# Altium schematic symbol library Schlib AM625.SchLib: 78 symbols (part 1 of 3)
Pins are listed as number, name and electrical type; pins without a type are passive.

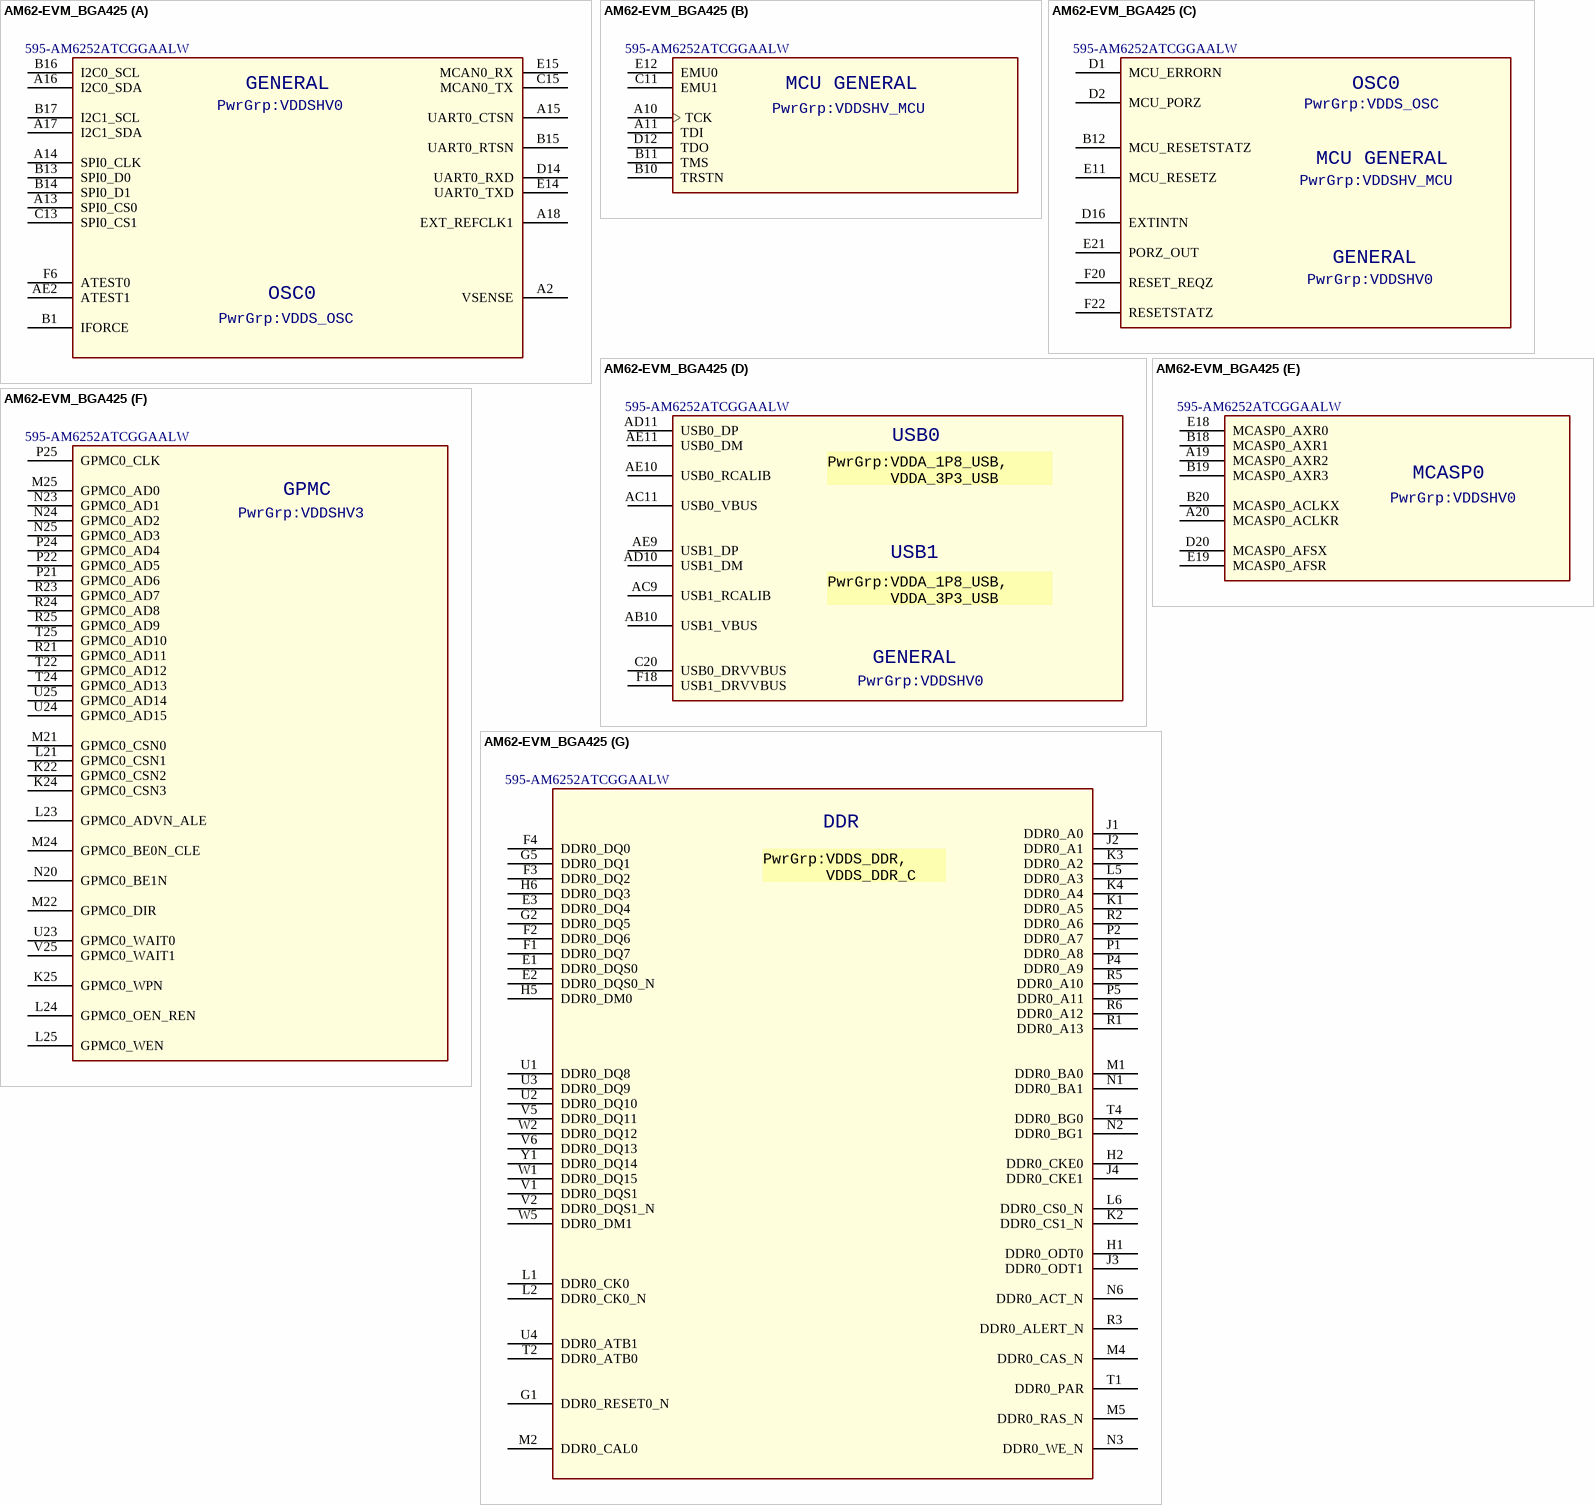
[diagram p0: symbol AM62-EVM_BGA425]

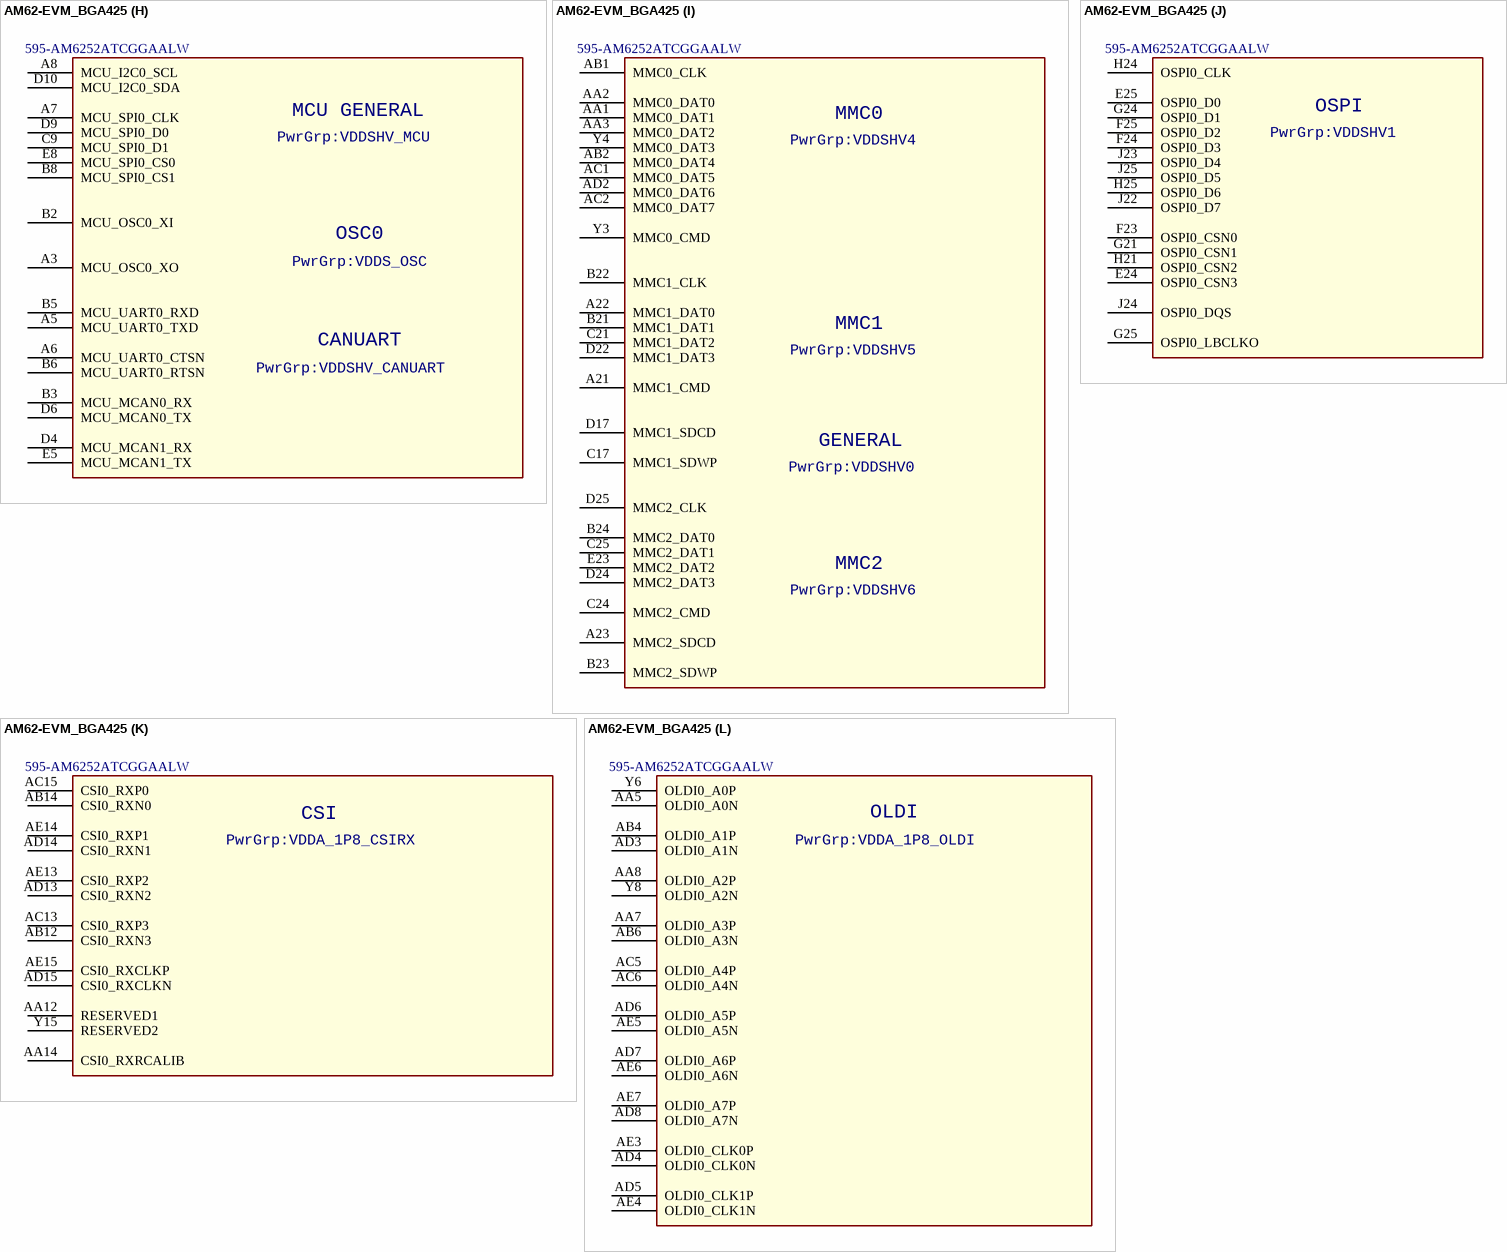
[diagram p1: symbol AM62-EVM_BGA425]

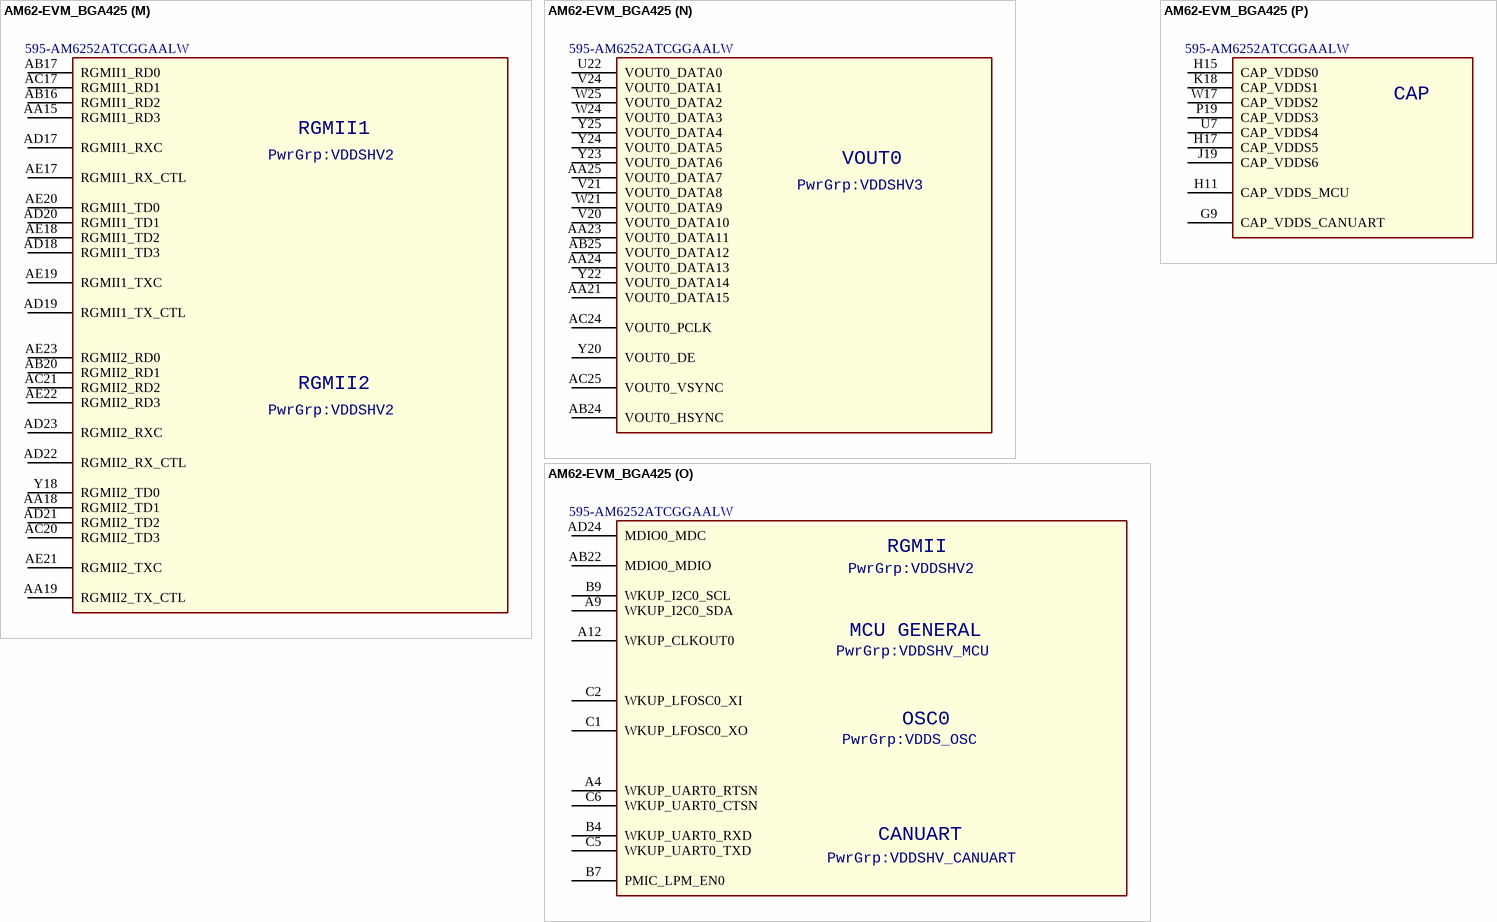
[diagram p2: symbol AM62-EVM_BGA425]

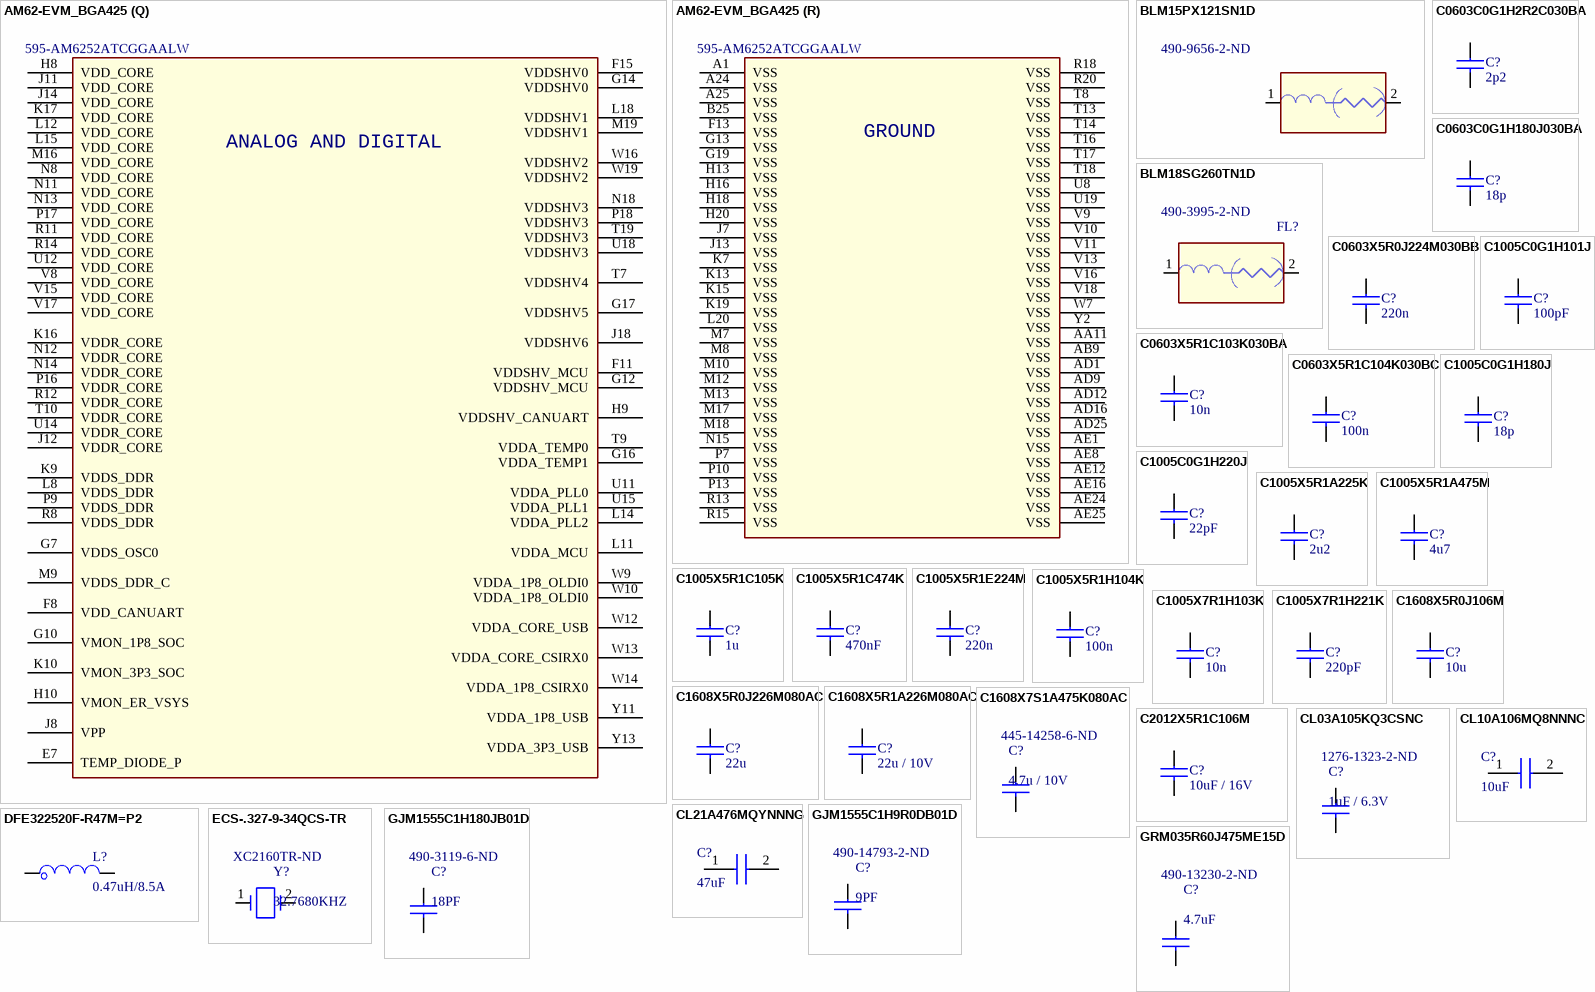
[diagram p3: symbols AM62-EVM_BGA425 to GRM035R60J475ME15D]

## AM62-EVM_BGA425
designator U?  Supplier Part Number 1: 595-AM6252ATCGGAALW
ARM® Cortex®-A53 Microprocessor IC Sitara™ 2 Core, 64-Bit 1.4GHz 425-FCCSP (13x13); Manufacturer: Texas Instruments; Manufacturer Part Number: AM6252ATCGGAALW; Supplier 1: Mouser; Stock 1: 0; Pricing 1: 1=21.23, 10=19.58, 50=18.7, 100=18.7, 1000=15.94, 10000=15.94 (USD)
footprint BGA425C50P25X25_1300X1300X89
part A pins: A2 VSENSE, A13 SPI0_CS0, A14 SPI0_CLK, A15 UART0_CTSN, A16 I2C0_SDA, A17 I2C1_SDA, A18 EXT_REFCLK1, AE2 ATEST1, B1 IFORCE, B13 SPI0_D0, B14 SPI0_D1, B15 UART0_RTSN, B16 I2C0_SCL, B17 I2C1_SCL, C13 SPI0_CS1, C15 MCAN0_TX, D14 UART0_RXD, E14 UART0_TXD, E15 MCAN0_RX, F6 ATEST0
part B pins: A10 TCK, A11 TDI, B10 TRSTN, B11 TMS, C11 EMU1, D12 TDO, E12 EMU0
part C pins: B12 MCU_RESETSTATZ, D1 MCU_ERRORN, D2 MCU_PORZ, D16 EXTINTN, E11 MCU_RESETZ, E21 PORZ_OUT, F20 RESET_REQZ, F22 RESETSTATZ
part D pins: AB10 USB1_VBUS, AC9 USB1_RCALIB, AC11 USB0_VBUS, AD10 USB1_DM, AD11 USB0_DP, AE9 USB1_DP, AE10 USB0_RCALIB, AE11 USB0_DM, C20 USB0_DRVVBUS, F18 USB1_DRVVBUS
part E pins: A19 MCASP0_AXR2, A20 MCASP0_ACLKR, B18 MCASP0_AXR1, B19 MCASP0_AXR3, B20 MCASP0_ACLKX, D20 MCASP0_AFSX, E18 MCASP0_AXR0, E19 MCASP0_AFSR
part F pins: K22 GPMC0_CSN2, K24 GPMC0_CSN3, K25 GPMC0_WPN, L21 GPMC0_CSN1, L23 GPMC0_ADVN_ALE, L24 GPMC0_OEN_REN, L25 GPMC0_WEN, M21 GPMC0_CSN0, M22 GPMC0_DIR, M24 GPMC0_BE0N_CLE, M25 GPMC0_AD0, N20 GPMC0_BE1N, N23 GPMC0_AD1, N24 GPMC0_AD2, N25 GPMC0_AD3, P21 GPMC0_AD6, P22 GPMC0_AD5, P24 GPMC0_AD4, P25 GPMC0_CLK, R21 GPMC0_AD11, R23 GPMC0_AD7, R24 GPMC0_AD8, R25 GPMC0_AD9, T22 GPMC0_AD12, T24 GPMC0_AD13, T25 GPMC0_AD10, U23 GPMC0_WAIT0, U24 GPMC0_AD15, U25 GPMC0_AD14, V25 GPMC0_WAIT1
part G pins: E1 DDR0_DQS0, E2 DDR0_DQS0_N, E3 DDR0_DQ4, F1 DDR0_DQ7, F2 DDR0_DQ6, F3 DDR0_DQ2, F4 DDR0_DQ0, G1 DDR0_RESET0_N, G2 DDR0_DQ5, G5 DDR0_DQ1, H1 DDR0_ODT0, H2 DDR0_CKE0, H5 DDR0_DM0, H6 DDR0_DQ3, J1 DDR0_A0, J2 DDR0_A1, J3 DDR0_ODT1, J4 DDR0_CKE1, K1 DDR0_A5, K2 DDR0_CS1_N, K3 DDR0_A2, K4 DDR0_A4, L1 DDR0_CK0, L2 DDR0_CK0_N, L5 DDR0_A3, L6 DDR0_CS0_N, M1 DDR0_BA0, M2 DDR0_CAL0, M4 DDR0_CAS_N, M5 DDR0_RAS_N, N1 DDR0_BA1, N2 DDR0_BG1, N3 DDR0_WE_N, N6 DDR0_ACT_N, P1 DDR0_A8, P2 DDR0_A7, P4 DDR0_A9, P5 DDR0_A11, R1 DDR0_A13, R2 DDR0_A6, R3 DDR0_ALERT_N, R5 DDR0_A10, R6 DDR0_A12, T1 DDR0_PAR, T2 DDR0_ATB0, T4 DDR0_BG0, U1 DDR0_DQ8, U2 DDR0_DQ10, U3 DDR0_DQ9, U4 DDR0_ATB1, V1 DDR0_DQS1, V2 DDR0_DQS1_N, V5 DDR0_DQ11, V6 DDR0_DQ13, W1 DDR0_DQ15, W2 DDR0_DQ12, W5 DDR0_DM1, Y1 DDR0_DQ14
part H pins: A3 MCU_OSC0_XO, A5 MCU_UART0_TXD, A6 MCU_UART0_CTSN, A7 MCU_SPI0_CLK, A8 MCU_I2C0_SCL, B2 MCU_OSC0_XI, B3 MCU_MCAN0_RX, B5 MCU_UART0_RXD, B6 MCU_UART0_RTSN, B8 MCU_SPI0_CS1, C9 MCU_SPI0_D1, D4 MCU_MCAN1_RX, D6 MCU_MCAN0_TX, D9 MCU_SPI0_D0, D10 MCU_I2C0_SDA, E5 MCU_MCAN1_TX, E8 MCU_SPI0_CS0
part I pins: A21 MMC1_CMD, A22 MMC1_DAT0, A23 MMC2_SDCD, AA1 MMC0_DAT1, AA2 MMC0_DAT0, AA3 MMC0_DAT2, AB1 MMC0_CLK, AB2 MMC0_DAT4, AC1 MMC0_DAT5, AC2 MMC0_DAT7, AD2 MMC0_DAT6, B21 MMC1_DAT1, B22 MMC1_CLK, B23 MMC2_SDWP, B24 MMC2_DAT0, C17 MMC1_SDWP, C21 MMC1_DAT2, C24 MMC2_CMD, C25 MMC2_DAT1, D17 MMC1_SDCD, D22 MMC1_DAT3, D24 MMC2_DAT3, D25 MMC2_CLK, E23 MMC2_DAT2, Y3 MMC0_CMD, Y4 MMC0_DAT3
part J pins: E24 OSPI0_CSN3, E25 OSPI0_D0, F23 OSPI0_CSN0, F24 OSPI0_D3, F25 OSPI0_D2, G21 OSPI0_CSN1, G24 OSPI0_D1, G25 OSPI0_LBCLKO, H21 OSPI0_CSN2, H24 OSPI0_CLK, H25 OSPI0_D6, J22 OSPI0_D7, J23 OSPI0_D4, J24 OSPI0_DQS, J25 OSPI0_D5
part K pins: AA12 RESERVED1, AA14 CSI0_RXRCALIB, AB12 CSI0_RXN3, AB14 CSI0_RXN0, AC13 CSI0_RXP3, AC15 CSI0_RXP0, AD13 CSI0_RXN2, AD14 CSI0_RXN1, AD15 CSI0_RXCLKN, AE13 CSI0_RXP2, AE14 CSI0_RXP1, AE15 CSI0_RXCLKP, Y15 RESERVED2
part L pins: AA5 OLDI0_A0N, AA7 OLDI0_A3P, AA8 OLDI0_A2P, AB4 OLDI0_A1P, AB6 OLDI0_A3N, AC5 OLDI0_A4P, AC6 OLDI0_A4N, AD3 OLDI0_A1N, AD4 OLDI0_CLK0N, AD5 OLDI0_CLK1P, AD6 OLDI0_A5P, AD7 OLDI0_A6P, AD8 OLDI0_A7N, AE3 OLDI0_CLK0P, AE4 OLDI0_CLK1N, AE5 OLDI0_A5N, AE6 OLDI0_A6N, AE7 OLDI0_A7P, Y6 OLDI0_A0P, Y8 OLDI0_A2N
part M pins: AA15 RGMII1_RD3, AA18 RGMII2_TD1, AA19 RGMII2_TX_CTL, AB16 RGMII1_RD2, AB17 RGMII1_RD0, AB20 RGMII2_RD1, AC17 RGMII1_RD1, AC20 RGMII2_TD3, AC21 RGMII2_RD2, AD17 RGMII1_RXC, AD18 RGMII1_TD3, AD19 RGMII1_TX_CTL, AD20 RGMII1_TD1, AD21 RGMII2_TD2, AD22 RGMII2_RX_CTL, AD23 RGMII2_RXC, AE17 RGMII1_RX_CTL, AE18 RGMII1_TD2, AE19 RGMII1_TXC, AE20 RGMII1_TD0, AE21 RGMII2_TXC, AE22 RGMII2_RD3, AE23 RGMII2_RD0, Y18 RGMII2_TD0
part N pins: AA21 VOUT0_DATA15, AA23 VOUT0_DATA11, AA24 VOUT0_DATA13, AA25 VOUT0_DATA7, AB24 VOUT0_HSYNC, AB25 VOUT0_DATA12, AC24 VOUT0_PCLK, AC25 VOUT0_VSYNC, U22 VOUT0_DATA0, V20 VOUT0_DATA10, V21 VOUT0_DATA8, V24 VOUT0_DATA1, W21 VOUT0_DATA9, W24 VOUT0_DATA3, W25 VOUT0_DATA2, Y20 VOUT0_DE, Y22 VOUT0_DATA14, Y23 VOUT0_DATA6, Y24 VOUT0_DATA5, Y25 VOUT0_DATA4
part O pins: A4 WKUP_UART0_RTSN, A9 WKUP_I2C0_SDA, A12 WKUP_CLKOUT0, AB22 MDIO0_MDIO, AD24 MDIO0_MDC, B4 WKUP_UART0_RXD, B7 PMIC_LPM_EN0, B9 WKUP_I2C0_SCL, C1 WKUP_LFOSC0_XO, C2 WKUP_LFOSC0_XI, C5 WKUP_UART0_TXD, C6 WKUP_UART0_CTSN
part P pins: G9 CAP_VDDS_CANUART (power), H11 CAP_VDDS_MCU (power), H15 CAP_VDDS0 (power), H17 CAP_VDDS5 (power), J19 CAP_VDDS6 (power), K18 CAP_VDDS1 (power), P19 CAP_VDDS3 (power), U7 CAP_VDDS4 (power), W17 CAP_VDDS2 (power)
part Q pins: E7 TEMP_DIODE_P (power), F8 VDD_CANUART (power), F11 VDDSHV_MCU (power), F15 VDDSHV0 (power), G7 VDDS_OSC0 (power), G10 VMON_1P8_SOC (power), G12 VDDSHV_MCU (power), G14 VDDSHV0 (power), G16 VDDA_TEMP1 (power), G17 VDDSHV5 (power), H8 VDD_CORE (power), H9 VDDSHV_CANUART (power), H10 VMON_ER_VSYS (power), J8 VPP (power), J11 VDD_CORE (power), J12 VDDR_CORE (power), J14 VDD_CORE (power), J18 VDDSHV6 (power), K9 VDDS_DDR (power), K10 VMON_3P3_SOC (power), K16 VDDR_CORE (power), K17 VDD_CORE (power), L8 VDDS_DDR (power), L11 VDDA_MCU (power), L12 VDD_CORE (power), L14 VDDA_PLL2 (power), L15 VDD_CORE (power), L18 VDDSHV1 (power), M9 VDDS_DDR_C (power), M16 VDD_CORE (power), M19 VDDSHV1 (power), N8 VDD_CORE (power), N11 VDD_CORE (power), N12 VDDR_CORE (power), N13 VDD_CORE (power), N14 VDDR_CORE (power), N18 VDDSHV3 (power), P9 VDDS_DDR (power), P16 VDDR_CORE (power), P17 VDD_CORE (power), P18 VDDSHV3 (power), R8 VDDS_DDR (power), R11 VDD_CORE (power), R12 VDDR_CORE (power), R14 VDD_CORE (power), T7 VDDSHV4 (power), T9 VDDA_TEMP0 (power), T10 VDDR_CORE (power), T19 VDDSHV3 (power), U11 VDDA_PLL0 (power), U12 VDD_CORE (power), U14 VDDR_CORE (power), U15 VDDA_PLL1 (power), U18 VDDSHV3 (power), V8 VDD_CORE (power), V15 VDD_CORE (power), V17 VDD_CORE (power), W9 VDDA_1P8_OLDI0 (power), W10 VDDA_1P8_OLDI0 (power), W12 VDDA_CORE_USB (power), W13 VDDA_CORE_CSIRX0 (power), W14 VDDA_1P8_CSIRX0 (power), W16 VDDSHV2 (power), W19 VDDSHV2 (power), Y11 VDDA_1P8_USB (power), Y13 VDDA_3P3_USB (power)
part R pins: A1 VSS (power), A24 VSS (power), A25 VSS (power), AA11 VSS (power), AB9 VSS (power), AD1 VSS (power), AD9 VSS (power), AD12 VSS (power), AD16 VSS (power), AD25 VSS (power), AE1 VSS (power), AE8 VSS (power), AE12 VSS (power), AE16 VSS (power), AE24 VSS (power), AE25 VSS (power), B25 VSS (power), F13 VSS (power), G13 VSS (power), G19 VSS (power), H13 VSS (power), H16 VSS (power), H18 VSS (power), H20 VSS (power), J7 VSS (power), J13 VSS (power), K7 VSS (power), K13 VSS (power), K15 VSS (power), K19 VSS (power), L20 VSS (power), M7 VSS (power), M8 VSS (power), M10 VSS (power), M12 VSS (power), M13 VSS (power), M17 VSS (power), M18 VSS (power), N15 VSS (power), P7 VSS (power), P10 VSS (power), P13 VSS (power), R13 VSS (power), R15 VSS (power), R18 VSS (power), R20 VSS (power), T8 VSS (power), T13 VSS (power), T14 VSS (power), T16 VSS (power), T17 VSS (power), T18 VSS (power), U8 VSS (power), U19 VSS (power), V9 VSS (power), V10 VSS (power), V11 VSS (power), V13 VSS (power), V16 VSS (power), V18 VSS (power), W7 VSS (power), Y2 VSS (power)
part A text: GENERAL; PwrGrp:VDDSHV0; OSC0; PwrGrp:VDDS_OSC
part B text: MCU GENERAL; PwrGrp:VDDSHV_MCU
part C text: OSC0; PwrGrp:VDDS_OSC; MCU GENERAL; PwrGrp:VDDSHV_MCU; GENERAL; PwrGrp:VDDSHV0
part D text: USB0; PwrGrp:VDDA_1P8_USB, / VDDA_3P3_USB; USB1; GENERAL; PwrGrp:VDDSHV0
part E text: MCASP0; PwrGrp:VDDSHV0
part F text: GPMC; PwrGrp:VDDSHV3
part G text: DDR; PwrGrp:VDDS_DDR, / VDDS_DDR_C
part H text: MCU GENERAL; PwrGrp:VDDSHV_MCU; OSC0; PwrGrp:VDDS_OSC; CANUART; PwrGrp:VDDSHV_CANUART
part I text: MMC0; PwrGrp:VDDSHV4; MMC1; PwrGrp:VDDSHV5; GENERAL; PwrGrp:VDDSHV0; MMC2; PwrGrp:VDDSHV6
part J text: OSPI; PwrGrp:VDDSHV1
part K text: CSI; PwrGrp:VDDA_1P8_CSIRX
part L text: OLDI; PwrGrp:VDDA_1P8_OLDI
part M text: RGMII1; PwrGrp:VDDSHV2; RGMII2
part N text: VOUT0; PwrGrp:VDDSHV3
part O text: RGMII; PwrGrp:VDDSHV2; MCU GENERAL; PwrGrp:VDDSHV_MCU; OSC0; PwrGrp:VDDS_OSC; CANUART; PwrGrp:VDDSHV_CANUART
part P text: CAP
part Q text: ANALOG AND DIGITAL
part R text: GROUND

## BLM15PX121SN1D
designator FL?  Supplier Part Number 1: 490-9656-2-ND
FERRITE BEAD 120 OHM 0402 1LN; Manufacturer: Murata; Manufacturer Part Number: BLM15PX121SN1D; Tolerance: 25%; Impedance: 120R; Current Rating: 2A; Number of Lines: 1; DC Resistance (DCR): 55mR; Test Frequency: 100MHz; Supplier 1: Digi-Key; Stock 1: 490000; Pricing 1: 10000=0.0196 (USD); Case/Package: 0402; Number of Pins: 2; Case Code (Metric): 1005; Case Code (Imperial): 0402; Weight: 2.3E-05oz; Material: Steel; Min Operating Temperature: -55°C; Max Operating Temperature: 125°C; Package Quantity: 1; Packaging: Tape and Reel; Max Current Rating: 2A; Termination: SMD/SMT; Max DC Current: 2A; Number of Circuits: 1; Series: EMIFIL®, BLM15P; Length: 1mm; Width: 0.5mm; Height: 0.5mm; Reach SVHC Compliant: Yes; Lead Free: Lead Free; RoHS Compliant: Yes; ComponentLink1URL: https://datasheet.ciiva.com/41449/001172210-da-01-en-drossel-0402-120r-1-0x0-5mm-10000st-41449498.pdf?src-supplier=Conrad; ComponentLink1Description: https://datasheet.ciiva.com/41449/001172210-da-01-en-drossel-0402-120r-1-0x0-5mm-10000st-41449498.pdf?src-supplier=Conrad; ComponentLink2URL: https://datasheet.ciiva.com/41860/l0110e-41860699.pdf?src-supplier=Digi-Key; ComponentLink2Description: https://datasheet.ciiva.com/41860/l0110e-41860699.pdf?src-supplier=Digi-Key; ComponentLink3URL: https://datasheet.ciiva.com/29364/l0110e-29364069.pdf?src-supplier=Digi-Key; ComponentLink3Description: https://datasheet.ciiva.com/29364/l0110e-29364069.pdf?src-supplier=Digi-Key
footprint NFZ15SG152SN10B
pins: 1, 2

## BLM18SG260TN1D
designator FL?  Supplier Part Number 1: 490-3995-2-ND
FERRITE BEAD 26 OHM 0603 1LN; Manufacturer: Murata; Manufacturer Part Number: BLM18SG260TN1D; Impedance: 26R; Tolerance: 25%; Current Rating: 6A; Number of Lines: 1; DC Resistance (DCR): 7mR; Test Frequency: 100MHz; Supplier 1: Digi-Key; Stock 1: 170000; Pricing 1: 10000=0.032, 20000=0.0305, 30000=0.0297 (USD); Case/Package: 0603; Number of Pins: 2; Core Material: Ferrite; Case Code (Metric): 1608; Case Code (Imperial): 0603; Material: Steel,Ferrite; Min Operating Temperature: -55°C; Max Operating Temperature: 125°C; Package Quantity: 1; Packaging: Tape and Reel; Max Current Rating: 6A; Termination: SMD/SMT; Max DC Current: 6A; DC Current: 6A; Frequency: 100MHz; Number of Circuits: 1; Series: BLM18S; DC Resistance-Max: 7mR; Length: 1.6mm; Width: 0.8mm; Height: 0.8mm; Depth: 0.8mm; Radiation Hardening: No; Reach SVHC Compliant: Yes; Military Standard: Not; Lead Free: Lead Free; RoHS Compliant: Yes; ComponentLink1URL: https://datasheet.ciiva.com/5709/5151-5709200.pdf?src-supplier=Farnell; ComponentLink1Description: https://datasheet.ciiva.com/5709/5151-5709200.pdf?src-supplier=Farnell; ComponentLink2URL: https://datasheet.ciiva.com/18183/getdatasheetpartid-243591-18183212.pdf?src-supplier=Verical; ComponentLink2Description: https://datasheet.ciiva.com/18183/getdatasheetpartid-243591-18183212.pdf?src-supplier=Verical; ComponentLink3URL: https://datasheet.ciiva.com/41449/001171725-da-01-en-chip-drossel0603-26r-6000ma-1-6x0-8mm-41449354.pdf?src-supplier=Conrad; ComponentLink3Description: https://datasheet.ciiva.com/41449/001171725-da-01-en-chip-drossel0603-26r-6000ma-1-6x0-8mm-41449354.pdf?src-supplier=Conrad; ComponentLink4URL: https://datasheet.ciiva.com/41449/001172314-da-01-en-drossel-0603-26r-1-6x0-8mm-10000st-41449676.pdf?src-supplier=Conrad; ComponentLink4Description: https://datasheet.ciiva.com/41449/001172314-da-01-en-drossel-0603-26r-1-6x0-8mm-10000st-41449676.pdf?src-supplier=Conrad; ComponentLink5URL: https://datasheet.ciiva.com/6212/l0110s0100blm18s-6212362.pdf?src-supplier=Digi-Key; ComponentLink5Description: https://datasheet.ciiva.com/6212/l0110s0100blm18s-6212362.pdf?src-supplier=Digi-Key
footprint BLM18EG101TH1D
pins: 1, 2

## C0603C0G1H2R2C030BA
designator C?, comment 2p2
CAP CER 2.2PF 50V C0G 0201; Manufacturer: TDK Corporation; Manufacturer Part Number: C0603C0G1H2R2C030BA; Tolerance: ±0.25pF; Temperature Coefficient: C0G, NP0; .Checked PCB: MM; Supplier 1: Digi-Key; RoHS: RoHS Compliant; Category: Capacitors; Stock 1: 90496; Pricing 1: 1=0.1, 10=0.027, 100=0.0123, 250=0.01008, 500=0.00864, 1000=0.0066, 5000=0.0055 (USD); Packaging: Cut Tape (CT); Capacitance: 2.2pF; Voltage - Rated: 50V; Mounting Type: Surface Mount, MLCC; Operating Temperature: -55°C ~ 125°C; Applications: General Purpose; Ratings: -; Package / Case: 0201 (0603 Metric); Size / Dimension: 0.024" L x 0.012" W (0.60mm x 0.30mm); Height - Seated (Max): -; Thickness (Max): 0.013" (0.33mm); Lead Spacing: -; Features: -; Lead Style: -; ComponentLink1URL: http://product.tdk.com/en/catalog/datasheets/mlcc_commercial_general_en.pdf; ComponentLink1Description: http://product.tdk.com/en/catalog/datasheets/mlcc_commercial_general_en.pdf; Supplier Part Number 1: 445-1771-1-ND; .Checked SCH: MM; .Creator: MM
footprint C0201 (Creator MM)
pins: 1, 2

## C0603C0G1H180J030BA
designator C?, comment 18p
CAP CER 18PF 50V 5% C0G 0201; Manufacturer: TDK Corporation; Manufacturer Part Number: C0603C0G1H180J030BA; Temperature Coefficient: C0G, NP0; .Creator: MM; Supplier 1: Digi-Key; RoHS: RoHS Compliant; Category: Capacitors; Stock 1: 230156; Pricing 1: 1=0.1, 10=0.024, 100=0.011, 250=0.009, 500=0.0077, 1000=0.006, 5000=0.005 (USD); Packaging: Cut Tape (CT); Capacitance: 18pF; Tolerance: ±5%; Voltage - Rated: 50V; Mounting Type: Surface Mount, MLCC; Operating Temperature: -55°C ~ 125°C; Applications: General Purpose; Ratings: -; Package / Case: 0201 (0603 Metric); Size / Dimension: 0.024" L x 0.012" W (0.60mm x 0.30mm); Height - Seated (Max): -; Thickness (Max): 0.013" (0.33mm); Lead Spacing: -; Features: -; Lead Style: -; ComponentLink1URL: http://product.tdk.com/en/catalog/datasheets/mlcc_commercial_general_en.pdf; ComponentLink1Description: http://product.tdk.com/en/catalog/datasheets/mlcc_commercial_general_en.pdf; Supplier Part Number 1: 445-1777-1-ND; .Checked PCB: MM; .Checked SCH: MM
footprint C0201 (Creator MM)
pins: 1, 2

## C0603X5R0J224M030BB
designator C?, comment 220n
CAP CER 0.22UF 6.3V 20% X5R 0201; Manufacturer: TDK Corporation; Manufacturer Part Number: C0603X5R0J224M030BB; Capacitance: 0.22µF; .Checked PCB: MM; Supplier 1: Digi-Key; RoHS: RoHS Compliant; Category: Capacitors; Stock 1: 205900; Pricing 1: 1=0.15, 10=0.102, 100=0.0485, 250=0.0408, 500=0.03418, 1000=0.0275, 5000=0.02325 (USD); Packaging: Cut Tape (CT); Tolerance: ±20%; Voltage - Rated: 6.3V; Temperature Coefficient: X5R; Mounting Type: Surface Mount, MLCC; Operating Temperature: -55°C ~ 85°C; Applications: General Purpose; Ratings: -; Package / Case: 0201 (0603 Metric); Size / Dimension: 0.024" L x 0.012" W (0.60mm x 0.30mm); Height - Seated (Max): -; Thickness (Max): 0.013" (0.33mm); Lead Spacing: -; Features: -; Lead Style: -; ComponentLink1URL: http://product.tdk.com/en/catalog/datasheets/mlcc_commercial_general_en.pdf; ComponentLink1Description: http://product.tdk.com/en/catalog/datasheets/mlcc_commercial_general_en.pdf; Supplier Part Number 1: 445-5929-1-ND; .Checked SCH: MM; .Creator: MM
footprint C0201 (Creator MM)
pins: 1, 2

## C0603X5R1C103K030BA
designator C?, comment 10n
CAP CER .01UF 16V 10% X5R 0201; Manufacturer: TDK Corporation; Manufacturer Part Number: C0603X5R1C103K030BA; Capacitance: 10000pF; .Creator: MM; Supplier 1: Digi-Key; RoHS: RoHS Compliant; Category: Capacitors; Stock 1: 24793; Pricing 1: 1=0.1, 10=0.043, 100=0.0196, 250=0.01608, 500=0.01374, 1000=0.0105, 5000=0.00875 (USD); Packaging: Cut Tape (CT); Tolerance: ±10%; Voltage - Rated: 16V; Temperature Coefficient: X5R; Mounting Type: Surface Mount, MLCC; Operating Temperature: -55°C ~ 85°C; Applications: General Purpose; Ratings: -; Package / Case: 0201 (0603 Metric); Size / Dimension: 0.024" L x 0.012" W (0.60mm x 0.30mm); Height - Seated (Max): -; Thickness (Max): 0.013" (0.33mm); Lead Spacing: -; Features: -; Lead Style: -; ComponentLink1URL: http://product.tdk.com/en/catalog/datasheets/mlcc_commercial_general_en.pdf; ComponentLink1Description: http://product.tdk.com/en/catalog/datasheets/mlcc_commercial_general_en.pdf; Supplier Part Number 1: 445-16166-1-ND; .Checked PCB: MM; .Checked SCH: MM
footprint C0201 (Creator MM)
pins: 1, 2

## C0603X5R1C104K030BC
designator C?, comment 100n
CAP CER 0.1UF 16V 10% X5R 0201; Manufacturer: TDK Corporation; Manufacturer Part Number: C0603X5R1C104K030BC; Capacitance: 0.1µF; .Creator: MM; Supplier 1: Digi-Key; RoHS: RoHS Compliant; Category: Capacitors; Stock 1: 19491; Pricing 1: 1=0.1, 10=0.046, 100=0.0209, 250=0.01712, 500=0.01464, 1000=0.0114, 5000=0.0095 (USD); Packaging: Cut Tape (CT); Tolerance: ±10%; Voltage - Rated: 16V; Temperature Coefficient: X5R; Mounting Type: Surface Mount, MLCC; Operating Temperature: -55°C ~ 85°C; Applications: General Purpose; Ratings: -; Package / Case: 0201 (0603 Metric); Size / Dimension: 0.024" L x 0.012" W (0.60mm x 0.30mm); Height - Seated (Max): -; Thickness (Max): 0.013" (0.33mm); Lead Spacing: -; Features: -; Lead Style: -; ComponentLink1URL: http://product.tdk.com/en/catalog/datasheets/mlcc_commercial_general_en.pdf; ComponentLink1Description: http://product.tdk.com/en/catalog/datasheets/mlcc_commercial_general_en.pdf; Supplier Part Number 1: 445-7313-1-ND; .Checked PCB: MM; .Checked SCH: MM
footprint C0201 (Creator MM)
pins: 1, 2

## C1005C0G1H101J
designator C?, comment 100pF
CAP CER 100PF 50V 5% NP0 0402; Manufacturer: TDK Corporation; Manufacturer Part Number: C1005C0G1H101J; Temperature Coefficient: C0G, NP0; .Checked PCB: used; Supplier 1: Digi-Key; Supplier Part Number 1: 445-1247-1-ND; RoHS: RoHS Compliant; Category: Capacitors; Stock 1: 298233; Pricing 1: 1=0.08, 10=0.05, 100=0.018, 250=0.013, 500=0.0096, 1000=0.0065 (USD); Capacitance: 100pF; Voltage - Rated: 50V; Tolerance: ±5%; Mounting Type: Surface Mount, MLCC; Operating Temperature: -55°C ~ 125°C; Applications: General Purpose; Ratings: -; Package / Case: 0402 (1005 Metric); Size / Dimension: 0.039" L x 0.020" W (1.00mm x 0.50mm); Height - Seated (Max): -; Thickness (Max): 0.022" (0.55mm); Lead Spacing: -; Features: -; Packaging: Cut Tape (CT); Lead Style: -; ComponentLink1URL: http://www.tdk.com/pdf/general_B11.pdf; ComponentLink1Description: http://www.tdk.com/pdf/general_B11.pdf; .Checked SCH: used
footprint C0402
pins: 1, 2

## C1005C0G1H180J
designator C?, comment 18p
CAP CER 18PF 50V C0G 5% 0402; Manufacturer: TDK Corporation; Manufacturer Part Number: C1005C0G1H180J; .Checked PCB: used; Temperature Coefficient: C0G, NP0; Capacitance: 18pF; Category: Capacitors; Supplier Part Number: 445-1238-1-ND; Operating Temperature: -55°C ~ 125°C; Package / Case: 0402 (1005 Metric); Price 1k [$]: 0.00468; Value: 18pF; .Checked SCH: used; Voltage - Rated: 50V; Supplier: Digikey; Supplier 1: Digi-Key; Supplier Part Number 1: 445-1238-1-ND; RoHS: RoHS Compliant; Stock 1: 24321; Pricing 1: 1=0.08, 10=0.05, 100=0.018, 250=0.013, 500=0.0096, 1000=0.0065 (USD); Tolerance: ±5%; Mounting Type: Surface Mount, MLCC; Applications: General Purpose; Ratings: -; Size / Dimension: 0.039" L x 0.020" W (1.00mm x 0.50mm); Height - Seated (Max): -; Thickness (Max): 0.022" (0.55mm); Lead Spacing: -; Features: -; Packaging: Cut Tape (CT); Lead Style: -; ComponentLink1URL: http://www.tdk.co.jp/tefe02/e412_c.pdf; ComponentLink1Description: http://www.tdk.co.jp/tefe02/e412_c.pdf
footprint C0402
pins: 1, 2

## C1005C0G1H220J
designator C?, comment 22pF
CAP CER 22PF 50V C0G 5% 0402; Manufacturer: TDK Corporation; Manufacturer Part Number: C1005C0G1H220J; .Checked PCB: used; Temperature Coefficient: C0G, NP0; Capacitance: 22pF; Category: Capacitors; Supplier Part Number: 445-1239-1-ND; Operating Temperature: -55°C ~ 125°C; Package / Case: 0402 (1005 Metric); Price 1k [$]: 0.00442; Value: 22pF; .Checked SCH: used; Voltage - Rated: 50V; Supplier: Digikey; Supplier 1: Digi-Key; Supplier Part Number 1: 445-1239-1-ND; RoHS: RoHS Compliant; Stock 1: 176261; Pricing 1: 1=0.08, 10=0.05, 100=0.018, 250=0.013, 500=0.0096, 1000=0.0065 (USD); Tolerance: ±5%; Mounting Type: Surface Mount, MLCC; Applications: General Purpose; Ratings: -; Size / Dimension: 0.039" L x 0.020" W (1.00mm x 0.50mm); Height - Seated (Max): -; Thickness (Max): 0.022" (0.55mm); Lead Spacing: -; Features: -; Packaging: Cut Tape (CT); Lead Style: -; ComponentLink1URL: http://www.tdk.co.jp/tefe02/e412_c.pdf; ComponentLink1Description: http://www.tdk.co.jp/tefe02/e412_c.pdf
footprint C0402
pins: 1, 2

## C1005X5R1A225K
designator C?, comment 2u2
CAP CER 2.2UF 10V 10% X5R 0402; Manufacturer: TDK Corporation; Manufacturer Part Number: C1005X5R1A225K; Capacitance: 2.2µF; .Checked PCB: used; Supplier 1: Digi-Key; Supplier Part Number 1: 445-7392-1-ND; RoHS: RoHS Compliant; Category: Capacitors; Stock 1: 22891; Pricing 1: 1=0.42, 10=0.332, 100=0.2, 250=0.15, 500=0.128, 1000=0.1 (USD); Voltage - Rated: 10V; Tolerance: ±10%; Temperature Coefficient: X5R; Mounting Type: Surface Mount, MLCC; Operating Temperature: -55°C ~ 85°C; Applications: General Purpose; Ratings: -; Package / Case: 0402 (1005 Metric); Size / Dimension: 0.039" L x 0.020" W (1.00mm x 0.50mm); Height - Seated (Max): -; Thickness (Max): 0.022" (0.55mm); Lead Spacing: -; Features: -; Packaging: Cut Tape (CT); Lead Style: -; ComponentLink1URL: http://www.tdk.com/pdf/general_B11.pdf; ComponentLink1Description: http://www.tdk.com/pdf/general_B11.pdf; .Checked SCH: used
footprint C0402
pins: 1, 2

## C1005X5R1A475M
designator C?, comment 4u7
CAP CER 4.7UF 10V 20% X5R 0402; Manufacturer: TDK Corporation; Manufacturer Part Number: C1005X5R1A475M; Capacitance: 4.7µF; .Checked PCB: used; Supplier 1: Digi-Key; Supplier Part Number 1: 445-8023-1-ND; RoHS: RoHS Compliant; Category: Capacitors; Stock 1: 10140; Pricing 1: 1=0.53, 10=0.415, 100=0.25, 250=0.18752, 500=0.16, 1000=0.125, 5000=0.095 (USD); Voltage - Rated: 10V; Tolerance: ±20%; Temperature Coefficient: X5R; Mounting Type: Surface Mount, MLCC; Operating Temperature: -55°C ~ 85°C; Applications: General Purpose; Ratings: -; Package / Case: 0402 (1005 Metric); Size / Dimension: 0.039" L x 0.020" W (1.00mm x 0.50mm); Height - Seated (Max): -; Thickness (Max): -; Lead Spacing: -; Features: -; Packaging: Cut Tape (CT); Lead Style: -; ComponentLink1URL: http://www.tdk.com/pdf/general_B11.pdf; ComponentLink1Description: http://www.tdk.com/pdf/general_B11.pdf; .Checked SCH: used
footprint C0402
pins: 1, 2

## C1005X5R1C105K
designator C?, comment 1u
CAP CER 1.0UF 16V X5R 0402; Manufacturer: TDK Corporation; Manufacturer Part Number: C1005X5R1C105K; Capacitance: 1.0µF; Value: 1uF; .Checked PCB: used; Tolerance: ±10%; Category: Capacitors; Supplier Part Number: 445-4978-1-ND; Operating Temperature: -55°C ~ 85°C; Package / Case: 0402 (1005 Metric); Price 1k [$]: 0.02080; .Checked SCH: used; Voltage - Rated: 16V; Supplier: Digikey; Supplier 1: Digi-Key; Supplier Part Number 1: 445-4978-1-ND; RoHS: RoHS Compliant; Stock 1: 341010; Pricing 1: 1=0.24, 10=0.16, 100=0.064, 250=0.046, 500=0.0328, 1000=0.024 (USD); Temperature Coefficient: X5R; Mounting Type: Surface Mount, MLCC; Applications: General Purpose; Ratings: -; Size / Dimension: 0.039" L x 0.020" W (1.00mm x 0.50mm); Height - Seated (Max): -; Thickness (Max): 0.022" (0.55mm); Lead Spacing: -; Features: -; Packaging: Cut Tape (CT); Lead Style: -; ComponentLink1URL: http://www.tdk.co.jp/tefe02/e412_c.pdf; ComponentLink1Description: http://www.tdk.co.jp/tefe02/e412_c.pdf
footprint C0402
pins: 1, 2

## C1005X5R1C474K
designator C?, comment 470nF
CAP CER .47UF 16V X5R 0402; Manufacturer: TDK Corporation; Manufacturer Part Number: C1005X5R1C474K; Capacitance: 0.47µF; .Checked PCB: used; Tolerance: ±10%; Category: Capacitors; Supplier Part Number: 445-4976-1-ND; Operating Temperature: -55°C ~ 85°C; Package / Case: 0402 (1005 Metric); Price 1k [$]: 0.02400; Value: 470nF; .Checked SCH: used; Voltage - Rated: 16V; Supplier: Digikey; Supplier 1: Digi-Key; Supplier Part Number 1: 445-4976-1-ND; RoHS: RoHS Compliant; Stock 1: 141502; Pricing 1: 1=0.24, 10=0.16, 100=0.064, 250=0.046, 500=0.0328, 1000=0.024 (USD); Temperature Coefficient: X5R; Mounting Type: Surface Mount, MLCC; Applications: General Purpose; Ratings: -; Size / Dimension: 0.039" L x 0.020" W (1.00mm x 0.50mm); Height - Seated (Max): -; Thickness (Max): 0.022" (0.55mm); Lead Spacing: -; Features: -; Packaging: Cut Tape (CT); Lead Style: -; ComponentLink1URL: http://www.tdk.co.jp/tefe02/e412_c.pdf; ComponentLink1Description: http://www.tdk.co.jp/tefe02/e412_c.pdf
footprint C0402
pins: 1, 2

## C1005X5R1E224M
designator C?, comment 220n
CAP CER .22UF 25V X5R 20% 0402; Manufacturer: TDK Corporation; Manufacturer Part Number: C1005X5R1E224M; Capacitance: 0.22µF; Value: 220nF; .Checked PCB: used; Category: Capacitors; Supplier Part Number: 445-5945-1-ND; Operating Temperature: -55°C ~ 85°C; Package / Case: 0402 (1005 Metric); Price 1k [$]: 0.02600; .Checked SCH: used; Voltage - Rated: 25V; Supplier: Digikey; Supplier 1: Digi-Key; Supplier Part Number 1: 445-5945-1-ND; RoHS: RoHS Compliant; Stock 1: 54593; Pricing 1: 1=0.3, 10=0.2, 100=0.08, 250=0.05752, 500=0.041, 1000=0.03 (USD); Tolerance: ±20%; Temperature Coefficient: X5R; Mounting Type: Surface Mount, MLCC; Applications: General Purpose; Ratings: -; Size / Dimension: 0.039" L x 0.020" W (1.00mm x 0.50mm); Height - Seated (Max): -; Thickness (Max): 0.022" (0.55mm); Lead Spacing: -; Features: -; Packaging: Cut Tape (CT); Lead Style: -; ComponentLink1URL: http://www.tdk.co.jp/tefe02/e412_c.pdf; ComponentLink1Description: http://www.tdk.co.jp/tefe02/e412_c.pdf
footprint C0402
pins: 1, 2

## C1005X5R1H104K
designator C?, comment 100n
CAP CER .10UF 50V X5R 10% 0402; Manufacturer: TDK Corporation; Manufacturer Part Number: C1005X5R1H104K; Capacitance: 0.1µF; Value: 100nF; .Checked PCB: used; Category: Capacitors; Supplier Part Number: 445-5942-1-ND; Operating Temperature: -55°C ~ 85°C; Package / Case: 0402 (1005 Metric); Price 1k [$]: 0.02340; .Checked SCH: used; Voltage - Rated: 50V; Supplier: Digikey; Supplier 1: Digi-Key; Supplier Part Number 1: 445-5942-1-ND; RoHS: RoHS Compliant; Stock 1: 106926; Pricing 1: 1=0.27, 10=0.18, 100=0.072, 250=0.05176, 500=0.0369, 1000=0.027 (USD); Tolerance: ±10%; Temperature Coefficient: X5R; Mounting Type: Surface Mount, MLCC; Applications: General Purpose; Ratings: -; Size / Dimension: 0.039" L x 0.020" W (1.00mm x 0.50mm); Height - Seated (Max): -; Thickness (Max): 0.022" (0.55mm); Lead Spacing: -; Features: -; Packaging: Cut Tape (CT); Lead Style: -; ComponentLink1URL: http://www.tdk.co.jp/tefe02/e412_c.pdf; ComponentLink1Description: http://www.tdk.co.jp/tefe02/e412_c.pdf
footprint C0402
pins: 1, 2

## C1005X7R1H103K
designator C?, comment 10n
CAP CER 10000PF 50V 10% X7R 0402; Manufacturer: TDK Corporation; Manufacturer Part Number: C1005X7R1H103K; Value: 10nF; .Checked PCB: used; Capacitance: 10000pF; Category: Capacitors; Supplier Part Number: 445-6850-1-ND; Operating Temperature: -55°C ~ 125°C; Package / Case: 0402 (1005 Metric); Price 1k [$]: 0.01625; .Checked SCH: used; Voltage - Rated: 50V; Supplier: Digikey; Supplier 1: Digi-Key; Supplier Part Number 1: 445-6850-1-ND; RoHS: RoHS Compliant; Stock 1: 3901; Pricing 1: 1=0.2, 10=0.125, 100=0.045, 250=0.03252, 500=0.024, 1000=0.01625 (USD); Tolerance: ±10%; Temperature Coefficient: X7R; Mounting Type: Surface Mount, MLCC; Applications: General Purpose; Ratings: -; Size / Dimension: 0.039" L x 0.020" W (1.00mm x 0.50mm); Height - Seated (Max): -; Thickness (Max): 0.022" (0.55mm); Lead Spacing: -; Features: -; Packaging: Cut Tape (CT); Lead Style: -; ComponentLink1URL: http://www.tdk.co.jp/tefe02/e412_c.pdf; ComponentLink1Description: http://www.tdk.co.jp/tefe02/e412_c.pdf
footprint C0402
pins: 1, 2

## C1005X7R1H221K
designator C?, comment 220pF
CAP CER 220PF 50V X7R 10% 0402; Manufacturer: TDK Corporation; Manufacturer Part Number: C1005X7R1H221K; .Checked PCB: used; Capacitance: 220pF; Category: Capacitors; Supplier Part Number: 445-1254-1-ND; Operating Temperature: -55°C ~ 125°C; Package / Case: 0402 (1005 Metric); Price 1k [$]: 0.00650; Value: 220pF; .Checked SCH: used; Voltage - Rated: 50V; Supplier: Digikey; Supplier 1: Digi-Key; Supplier Part Number 1: 445-1254-1-ND; RoHS: RoHS Compliant; Stock 1: 212041; Pricing 1: 1=0.08, 10=0.05, 100=0.018, 250=0.013, 500=0.0096, 1000=0.0065 (USD); Tolerance: ±10%; Temperature Coefficient: X7R; Mounting Type: Surface Mount, MLCC; Applications: General Purpose; Ratings: -; Size / Dimension: 0.039" L x 0.020" W (1.00mm x 0.50mm); Height - Seated (Max): -; Thickness (Max): 0.022" (0.55mm); Lead Spacing: -; Features: -; Packaging: Cut Tape (CT); Lead Style: -; ComponentLink1URL: http://www.tdk.co.jp/tefe02/e412_c.pdf; ComponentLink1Description: http://www.tdk.co.jp/tefe02/e412_c.pdf
footprint C0402
pins: 1, 2

## C1608X5R0J106M
designator C?, comment 10u
CAP CER 10UF 6.3V X5R 20% 0603; Manufacturer: TDK Corporation; Manufacturer Part Number: C1608X5R0J106M; Capacitance: 10µF; Value: 10µF; .Checked PCB: used; Category: Capacitors; Supplier Part Number: 445-4112-1-ND; Operating Temperature: -55°C ~ 85°C; Package / Case: 0603 (1608 Metric); Price 1k [$]: 0.08580; .Checked SCH: used; Voltage - Rated: 6.3V; Features: Low ESR; Supplier: Digikey; Supplier 1: Digi-Key; Supplier Part Number 1: 445-4112-1-ND; RoHS: RoHS Compliant; Stock 1: 48157; Pricing 1: 1=0.46, 10=0.363, 100=0.1898, 250=0.14024, 500=0.1089, 1000=0.0858 (USD); Tolerance: ±20%; Temperature Coefficient: X5R; Mounting Type: Surface Mount, MLCC; Applications: General Purpose; Ratings: -; Size / Dimension: 0.063" L x 0.031" W (1.60mm x 0.80mm); Height - Seated (Max): -; Thickness (Max): 0.037" (0.95mm); Lead Spacing: -; Packaging: Cut Tape (CT); Lead Style: -; ComponentLink1URL: http://www.tdk.com/pdf/general_B11.pdf; ComponentLink1Description: http://www.tdk.com/pdf/general_B11.pdf
footprint C0603
pins: 1, 2

## C1608X5R0J226M080AC
designator C?, comment 22u
CAP CER 22UF 6.3V 20% X5R 0603; Manufacturer: TDK Corporation; Manufacturer Part Number: C1608X5R0J226M080AC; Capacitance: 22µF; .Creator: MM; Supplier 1: Digi-Key; RoHS: RoHS Compliant; Category: Capacitors; Stock 1: 593047; Pricing 1: 1=0.39, 10=0.343, 100=0.1714, 250=0.13708, 500=0.12484, 1000=0.1104 (USD); Packaging: Cut Tape (CT); Tolerance: ±20%; Voltage - Rated: 6.3V; Temperature Coefficient: X5R; Mounting Type: Surface Mount, MLCC; Operating Temperature: -55°C ~ 85°C; Applications: General Purpose; Ratings: -; Package / Case: 0603 (1608 Metric); Size / Dimension: 0.063" L x 0.031" W (1.60mm x 0.80mm); Height - Seated (Max): -; Thickness (Max): 0.039" (1.00mm); Lead Spacing: -; Features: -; Lead Style: -; ComponentLink1URL: http://product.tdk.com/en/catalog/datasheets/mlcc_commercial_general_en.pdf; ComponentLink1Description: http://product.tdk.com/en/catalog/datasheets/mlcc_commercial_general_en.pdf; Supplier Part Number 1: 445-8028-1-ND; .Checked PCB: MM; .Checked SCH: MM
footprint C0603
pins: 1, 2

## C1608X5R1A226M080AC
designator C?, comment 22u / 10V
CAP CER 22UF 10V X5R 0603; Manufacturer: TDK Corporation; Manufacturer Part Number: C1608X5R1A226M080AC; Capacitance: 22µF; Tolerance: ±20%; .Creator: MM; Supplier 1: Digi-Key; RoHS: RoHS Compliant; Category: Capacitors; Stock 1: 405620; Pricing 1: 1=0.49, 10=0.469, 100=0.2275, 250=0.189, 500=0.1715, 1000=0.1575 (USD); Packaging: Cut Tape (CT); Voltage - Rated: 10V; Temperature Coefficient: X5R; Mounting Type: Surface Mount, MLCC; Operating Temperature: -55°C ~ 85°C; Applications: General Purpose; Ratings: -; Package / Case: 0603 (1608 Metric); Size / Dimension: 0.063" L x 0.031" W (1.60mm x 0.80mm); Height - Seated (Max): -; Thickness (Max): 0.035" (0.90mm); Lead Spacing: -; Features: -; Lead Style: -; ComponentLink1URL: http://product.tdk.com/en/catalog/datasheets/mlcc_commercial_general_en.pdf; ComponentLink1Description: http://product.tdk.com/en/catalog/datasheets/mlcc_commercial_general_en.pdf; Supplier Part Number 1: 445-9077-1-ND; .Checked SCH: MM; .Checked PCB: MM
footprint C0603
pins: 1, 2

## C1608X7S1A475K080AC
designator C?, comment 4.7u / 10V  Supplier Part Number 1: 445-14258-6-ND
CAP CER 4.7UF 10V X7S 0603; Manufacturer: TDK; Manufacturer Part Number: C1608X7S1A475K080AC; Dielectric Material: Ceramic; Tolerance: 10%; Frequency: 48MHz; Interface: I2C,SPI,IrDA,UART,USART,EBI/EMI; Number of I/Os: 90; Oscillator Type: Internal; Memory Type: FLASH; Memory Size: 64KB; Peripherals: Brown-out Detect/Reset,POR,PWM,WDT,DMA,LCD; Core Architecture: ARM; Supplier 1: Digi-Key; Stock 1: 556359; Pricing 1: 1=0.26, 10=0.176, 50=0.1058, 100=0.0894, 500=0.0612, 1000=0.0541 (USD); Case/Package: 0603; Number of Pins: 64; Case Code (Metric): 1608; Case Code (Imperial): 0603; Min Operating Temperature: -40°C; Max Operating Temperature: 125°C; Package Quantity: 1000; Packaging: Tape and Reel; Capacitance: 4.7uF; Voltage Rating: 10V; Dielectric: X7S; Voltage Rating (DC): 10V; Series: Leopard Gecko; Length: 1.6mm; Depth: 0.8mm; Thickness: 800um; Reach SVHC Compliant: Yes; Lead Free: Lead Free; RoHS Compliant: Yes; ComponentLink1URL: https://datasheet.ciiva.com/14911/tdkmlcccaprange-14911943.pdf?src-supplier=Digi-Key; ComponentLink1Description: https://datasheet.ciiva.com/14911/tdkmlcccaprange-14911943.pdf?src-supplier=Digi-Key; ComponentLink2URL: https://datasheet.ciiva.com/14911/tdkmlcccaprange-14911942.pdf?src-supplier=Digi-Key; ComponentLink2Description: https://datasheet.ciiva.com/14911/tdkmlcccaprange-14911942.pdf?src-supplier=Digi-Key; ComponentLink3URL: https://datasheet.ciiva.com/14911/tdkmlcccaprange-14911944.pdf?src-supplier=Digi-Key; ComponentLink3Description: https://datasheet.ciiva.com/14911/tdkmlcccaprange-14911944.pdf?src-supplier=Digi-Key
footprint C0603
pins: 1, 2

## C2012X5R1C106M
designator C?, comment 10uF / 16V
CAP CER 10UF 16V 20% X5R 0805; Manufacturer: TDK Corporation; Manufacturer Part Number: C2012X5R1C106M/1.25; Capacitance: 10µF; .Checked PCB: used; Supplier 1: Digi-Key; Supplier Part Number 1: 445-4115-1-ND; RoHS: RoHS Compliant; Category: Capacitors; Stock 1: 66161; Pricing 1: 1=0.45, 10=0.357, 100=0.215, 250=0.16124, 500=0.1376, 1000=0.1075 (USD); Voltage - Rated: 16V; Tolerance: ±20%; Temperature Coefficient: X5R; Mounting Type: Surface Mount, MLCC; Operating Temperature: -55°C ~ 85°C; Applications: General Purpose; Ratings: -; Package / Case: 0805 (2012 Metric); Size / Dimension: 0.079" L x 0.049" W (2.00mm x 1.25mm); Height - Seated (Max): -; Thickness (Max): 0.039" (1.00mm); Lead Spacing: -; Features: -; Packaging: Cut Tape (CT); Lead Style: -; ComponentLink1URL: http://www.tdk.com/pdf/general_B11.pdf; ComponentLink1Description: http://www.tdk.com/pdf/general_B11.pdf; .Checked SCH: used
footprint C0805
pins: 1, 2

## CL03A105KQ3CSNC
designator C?, comment 1uF / 6.3V  Supplier Part Number 1: 1276-1323-2-ND
CAP CER 1UF 6.3V X5R 0201; Manufacturer: Samsung; Manufacturer Part Number: CL03A105KQ3CSNC; Tolerance: 10%; Supplier 1: Digi-Key; Stock 1: 1049900; Pricing 1: 10000=0.0226, 20000=0.0215, 30000=0.0204, 50000=0.0187, 100000=0.0154, 250000=0.0141 (USD); Mount: Surface Mount; Case/Package: 0201; Case Code (Metric): 0603; Case Code (Imperial): 0201; Contact Plating: Tin; Min Operating Temperature: -55°C; Max Operating Temperature: 85°C; Capacitance: 1uF; Packaging: Tape and Reel; Voltage Rating: 6.3V; Dielectric: X5R; Series: CL; Construction: Flat; Length: 0.6mm; Width: 0.012inch; Height: 0.3mm; Thickness: 0.013inch; Depth: 0.3mm; Radiation Hardening: No; RoHS Compliant: Yes; ComponentLink1URL: https://datasheet.ciiva.com/18699/cl03a105kq3csnc-18699129.pdf?src-supplier=Digi-Key; ComponentLink1Description: https://datasheet.ciiva.com/18699/cl03a105kq3csnc-18699129.pdf?src-supplier=Digi-Key; ComponentLink2URL: https://datasheet.ciiva.com/26838/getdatasheetpartid-355153-26838086.pdf?src-supplier=Verical; ComponentLink2Description: https://datasheet.ciiva.com/26838/getdatasheetpartid-355153-26838086.pdf?src-supplier=Verical
footprint C0201
pins: 1, 2

## CL10A106MQ8NNNC
designator C?, comment 10uF
10 µF ±20% 6.3V Ceramic Capacitor X5R 0603 (1608 Metric); Manufacturer_Name: SAMSUNG; Manufacturer_Part_Number: CL10A106MQ8NNNC; Manufacturer Part Number: CL03A474KQ3NNNC; Capacitance: 470nF; Tolerance: 10%; Datasheet Link: http://uk.rs-online.com/web/p/products/7664718; Height: 0.9mm; Mouser Part Number: 187-CL10A106MQ8NNNC; Mouser Price/Stock: https://www.mouser.co.uk/ProductDetail/Samsung-Electro-Mechanics/CL10A106MQ8NNNC?qs=349EhDEZ59qlB6a%2FjjeGAg%3D%3D; Arrow Part Number: CL10A106MQ8NNNC; Arrow Price/Stock: https://www.arrow.com/en/products/cl10a106mq8nnnc/samsung-electro-mechanics?region=nac; Manufacturer: Samsung; Mount: Surface Mount; Case/Package: 0201; Case Code (Metric): 0603; Case Code (Imperial): 0201; Min Operating Temperature: -55°C; Max Operating Temperature: 85°C; Package Quantity: 1; Packaging: Cut Tape; Voltage Rating: 6.3V; Series: CL; Voltage Rating (DC): 6.3V; Length: 0.024inch; Width: 0.012inch; Thickness: 0.013inch; RoHS Compliant: Yes; Lead Free: Lead Free; Supplier 1: Digi-Key; Stock 1: 2081153; Pricing 1: 1=0.11, 10=0.083, 50=0.0452, 100=0.0369, 500=0.0264, 1000=0.0207 (USD); Contact Plating: Tin; Dielectric: X5R; Voltage: 6.3V; Construction: Flat; Depth: 0.8mm; Radiation Hardening: No; ComponentLink1URL: https://datasheet.ciiva.com/25798/cl10a106mq8nnnc-25798320.pdf?src-supplier=Digi-Key; ComponentLink1Description: https://datasheet.ciiva.com/25798/cl10a106mq8nnnc-25798320.pdf?src-supplier=Digi-Key; ComponentLink2URL: https://datasheet.ciiva.com/26838/getdatasheetpartid-357557-26838347.pdf?src-supplier=Verical; ComponentLink2Description: https://datasheet.ciiva.com/26838/getdatasheetpartid-357557-26838347.pdf?src-supplier=Verical; ComponentLink3URL: https://datasheet.ciiva.com/16437/cl05b104kq5nnnc-16437327.pdf?src-supplier=Future+Electronics; ComponentLink3Description: https://datasheet.ciiva.com/16437/cl05b104kq5nnnc-16437327.pdf?src-supplier=Future+Electronics; Supplier Part Number 1: 1276-1119-6-ND
footprint C0603
pins: 1, 2

## CL21A476MQYNNNG
designator C?, comment 47uF
47 µF ±20% 6.3V Ceramic Capacitor X5R 0805 (2012 Metric); Manufacturer_Name: SAMSUNG; Manufacturer_Part_Number: CL21A476MQYNNNG; Datasheet Link: https://www.arrow.com/en/products/cl21a476mqynnng/samsung-electro-mechanics; Height: 1.45mm; Mouser Part Number: 187-CL21A476MQYNNNG; Mouser Price/Stock: https://www.mouser.co.uk/ProductDetail/Samsung-Electro-Mechanics/CL21A476MQYNNNG?qs=yOVawPpwOwm7Wn%252B7DxvR5g%3D%3D; Arrow Part Number: CL21A476MQYNNNG; Arrow Price/Stock: https://www.arrow.com/en/products/cl21a476mqynnng/samsung-electro-mechanics; Supplier 1: Digi-Key; Manufacturer: Samsung; Manufacturer Part Number: CL21A476MQYNNNG; Stock 1: 609000; Pricing 1: 3000=0.0672, 6000=0.0622, 9000=0.0588, 15000=0.0558, 30000=0.0538, 75000=0.0504, 150000=0.0445 (USD); Mount: Surface Mount; Case/Package: 0805; Case Code (Metric): 2012; Case Code (Imperial): 0805; Material: Ceramic; Min Operating Temperature: -55°C; Max Operating Temperature: 85°C; Tolerance: 20%; Packaging: Tape and Reel; Package Quantity: 3000; Capacitance: 47uF; Voltage Rating: 6.3V; Dielectric: X5R; Voltage: 6.3V; Series: CL; Length: 2mm; Width: 0.049inch; Thickness: 0.057inch; Depth: 1.25mm; Radiation Hardening: No; RoHS Compliant: Yes; ComponentLink1URL: https://datasheet.ciiva.com/26838/getdatasheetpartid-687155-26838634.pdf?src-supplier=Verical; ComponentLink1Description: https://datasheet.ciiva.com/26838/getdatasheetpartid-687155-26838634.pdf?src-supplier=Verical; ComponentLink2URL: https://datasheet.ciiva.com/25723/cl21a476mqynnng-25723909.pdf?src-supplier=Digi-Key; ComponentLink2Description: https://datasheet.ciiva.com/25723/cl21a476mqynnng-25723909.pdf?src-supplier=Digi-Key; ComponentLink3URL: https://datasheet.ciiva.com/29199/454310-da-01-en-vs-kondensator-0805-29199769.pdf?src-supplier=Conrad; ComponentLink3Description: https://datasheet.ciiva.com/29199/454310-da-01-en-vs-kondensator-0805-29199769.pdf?src-supplier=Conrad; Supplier Part Number 1: 1276-6467-2-ND
footprint C0805
pins: 1, 2

## DFE322520F-R47M=P2
designator L?, comment 0.47uH/8.5A
FIXED IND 0.47UH 8.5A; Manufacturer: Murata; Manufacturer Part Number: DFE322520F-R47M=P2; Supplier 1: Digi-Key; Stock 1: 1396; Pricing 1: 1=0.7, 10=0.648, 25=0.548, 50=0.4982, 100=0.4683, 250=0.4185, 500=0.3587, 1000=0.3188 (USD); Supplier Part Number 1: 490-DFE322520F-R47M=P2DKR-ND
footprint INDC3225X20N (Chip Inductor, 2-Leads, Body 3.20x2.50mm, IPC Medium Density)
pins: 1, 2

## ECS-.327-9-34QCS-TR
designator Y?, comment 32.7680KHZ  Supplier Part Number 1: XC2160TR-ND
CRYSTAL 32.7680KHZ 9PF SMD; Manufacturer: ECS International; Manufacturer Part Number: ECS-.327-9-34QCS-TR; Frequency: 32.768kHz; ESR (Equivalent Series Resistance): 70kR; Frequency Tolerance: 10ppm; Supplier 1: Digi-Key; Stock 1: 45000; Pricing 1: 3000=0.5643, 6000=0.5448, 15000=0.5254 (USD); Mount: Surface Mount; Case/Package: SMD/SMT; Min Operating Temperature: -40°C; Max Operating Temperature: 125°C; Packaging: Cut Tape; Load Capacitance: 9pF; Series: ECX-34Q; Length: 0.126inch; Width: 0.061inch; Height: 0.035inch; Ratings: AEC-Q200; ComponentLink1URL: https://www.ecsxtal.com/store/pdf/ECX-34Q.pdf?src-supplier=Digi-Key; ComponentLink1Description: https://www.ecsxtal.com/store/pdf/ECX-34Q.pdf?src-supplier=Digi-Key; ComponentLink2URL: http://www.ecsxtal.com/store/pdf/partnumber4.pdf?src-supplier=Digi-Key; ComponentLink2Description: http://www.ecsxtal.com/store/pdf/partnumber4.pdf?src-supplier=Digi-Key; ComponentLink3URL: https://datasheet.octopart.com/ECS-.327-9-34QCS-TR-ECS-International-datasheet-101745702.pdf?src-supplier=Master+Electronics; ComponentLink3Description: https://datasheet.octopart.com/ECS-.327-9-34QCS-TR-ECS-International-datasheet-101745702.pdf?src-supplier=Master+Electronics
footprint ECS327934QSTR
pins: 1, 2

## GJM1555C1H9R0DB01D
designator C?, comment 9PF  Supplier Part Number 1: 490-14793-2-ND
CAP CER 9PF 50V C0G/NP0 0402; Manufacturer: Murata; Manufacturer Part Number: GJM1555C1H9R0DB01D; Dielectric: C0G; Supplier 1: Digi-Key; Stock 1: 0; Pricing 1: 10000=0.0082, 20000=0.0078, 30000=0.0074, 50000=0.0067, 100000=0.0054, 250000=0.0052 (USD); Mount: Surface Mount; Case/Package: 0402; Case Code (Metric): 1005; Case Code (Imperial): 0402; Min Operating Temperature: -55°C; Max Operating Temperature: 125°C; Capacitance: 9pF; Packaging: Tape and Reel; Package Quantity: 10000; Voltage Rating: 50V; Termination: SMD/SMT; Voltage Rating (DC): 50V; Series: GJM; Construction: Flat; Length: 1mm; Width: 0.02inch; Height: 0.5mm; Thickness: 0.022inch; Depth: 0.5mm; Radiation Hardening: No; RoHS Compliant: Yes; ComponentLink1URL: https://datasheet.ciiva.com/164/product-164917.pdf?src-supplier=Digi-Key; ComponentLink1Description: https://datasheet.ciiva.com/164/product-164917.pdf?src-supplier=Digi-Key; ComponentLink2URL: https://datasheet.ciiva.com/11609/product-11609467.pdf?src-supplier=Avnet; ComponentLink2Description: https://datasheet.ciiva.com/11609/product-11609467.pdf?src-supplier=Avnet
footprint C0402
pins: 1, 2

## GJM1555C1H180JB01D
designator C?, comment 18PF  Supplier Part Number 1: 490-3119-6-ND
CAP CER 18PF 50V C0G/NP0 0402; Manufacturer: Murata; Manufacturer Part Number: GJM1555C1H180JB01D; Tolerance: 5%; Dielectric: C0G; Supplier 1: Digi-Key; Stock 1: 411624; Pricing 1: 1=0.15, 10=0.109, 50=0.0622, 100=0.0515, 500=0.0361, 1000=0.0299, 2500=0.0278, 5000=0.0254 (USD); Mount: Surface Mount; Case/Package: 0402; Case Code (Imperial): 0402; Case Code (Metric): 1005; Min Operating Temperature: -55°C; Max Operating Temperature: 125°C; Capacitance: 18pF; Packaging: Tape and Reel; Voltage Rating: 50V; Package Quantity: 1; Termination: SMD/SMT; Voltage: 50V; Voltage Rating (DC): 50V; Series: GJM; Construction: Flat; Length: 1mm; Width: 0.02inch; Height: 0.5mm; Thickness: 0.022inch; Depth: 0.5mm; Radiation Hardening: No; Lead Free: Lead Free; RoHS Compliant: Yes; ComponentLink1URL: https://datasheet.ciiva.com/156/product-156024.pdf?src-supplier=Digi-Key; ComponentLink1Description: https://datasheet.ciiva.com/156/product-156024.pdf?src-supplier=Digi-Key; ComponentLink2URL: https://datasheet.ciiva.com/18183/getdatasheetpartid-500953-18183813.pdf?src-supplier=Verical; ComponentLink2Description: https://datasheet.ciiva.com/18183/getdatasheetpartid-500953-18183813.pdf?src-supplier=Verical; ComponentLink3URL: https://datasheet.ciiva.com/156/partnumbering-e-01-156025.pdf?src-supplier=Digi-Key; ComponentLink3Description: https://datasheet.ciiva.com/156/partnumbering-e-01-156025.pdf?src-supplier=Digi-Key; ComponentLink4URL: https://datasheet.ciiva.com/156/partnumbering-e-01-156026.pdf?src-supplier=Digi-Key; ComponentLink4Description: https://datasheet.ciiva.com/156/partnumbering-e-01-156026.pdf?src-supplier=Digi-Key
footprint C0402
pins: 1, 2

## GRM035R60J475ME15D
designator C?, comment 4.7uF  Supplier Part Number 1: 490-13230-2-ND
CAP CER 4.7UF 6.3V X5R 0201; Manufacturer: Murata; Manufacturer Part Number: GRM035R60J475ME15D; Tolerance: 20%; Supplier 1: Digi-Key; Stock 1: 1730472; Pricing 1: 10000=0.044, 50000=0.0377, 100000=0.0333, 250000=0.0331 (USD); Mount: Surface Mount; Case/Package: 0201; Case Code (Metric): 0603; Case Code (Imperial): 0201; Min Operating Temperature: -55°C; Max Operating Temperature: 85°C; Packaging: Cut Tape; Series: GRM; Capacitance: 4.7uF; Voltage Rating: 6.3V; Voltage Rating (DC): 6.3V; Dielectric: X5R; Length: 0.024inch; Width: 0.012inch; Thickness: 0.022inch; RoHS Compliant: Yes; ComponentLink1URL: https://datasheet.octopart.com/GRM035R60J475ME15D-Murata-datasheet-140089765.pdf?src-supplier=Future+Electronics; ComponentLink1Description: https://datasheet.octopart.com/GRM035R60J475ME15D-Murata-datasheet-140089765.pdf?src-supplier=Future+Electronics; ComponentLink2URL: http://www.farnell.com/datasheets/2853106.pdf?src-supplier=Farnell; ComponentLink2Description: http://www.farnell.com/datasheets/2853106.pdf?src-supplier=Farnell; ComponentLink3URL: http://www.farnell.com/datasheets/2853106.pdf?src-supplier=Newark; ComponentLink3Description: http://www.farnell.com/datasheets/2853106.pdf?src-supplier=Newark; ComponentLink4URL: https://datasheet.octopart.com/GRM035R60J475ME15D-Murata-datasheet-149522819.pdf?src-supplier=Farnell; ComponentLink4Description: https://datasheet.octopart.com/GRM035R60J475ME15D-Murata-datasheet-149522819.pdf?src-supplier=Farnell; ComponentLink5URL: http://search.murata.co.jp/Ceramy/image/img/A01X/G101/ENG/GRM035R60J475ME15-01.pdf?src-supplier=Digi-Key; ComponentLink5Description: http://search.murata.co.jp/Ceramy/image/img/A01X/G101/ENG/GRM035R60J475ME15-01.pdf?src-supplier=Digi-Key; ComponentLink6URL: https://datasheet.octopart.com/GRM035R60J475ME15D-Murata-datasheet-165579666.pdf?src-supplier=TME; ComponentLink6Description: https://datasheet.octopart.com/GRM035R60J475ME15D-Murata-datasheet-165579666.pdf?src-supplier=TME
footprint C0201
pins: 1, 2

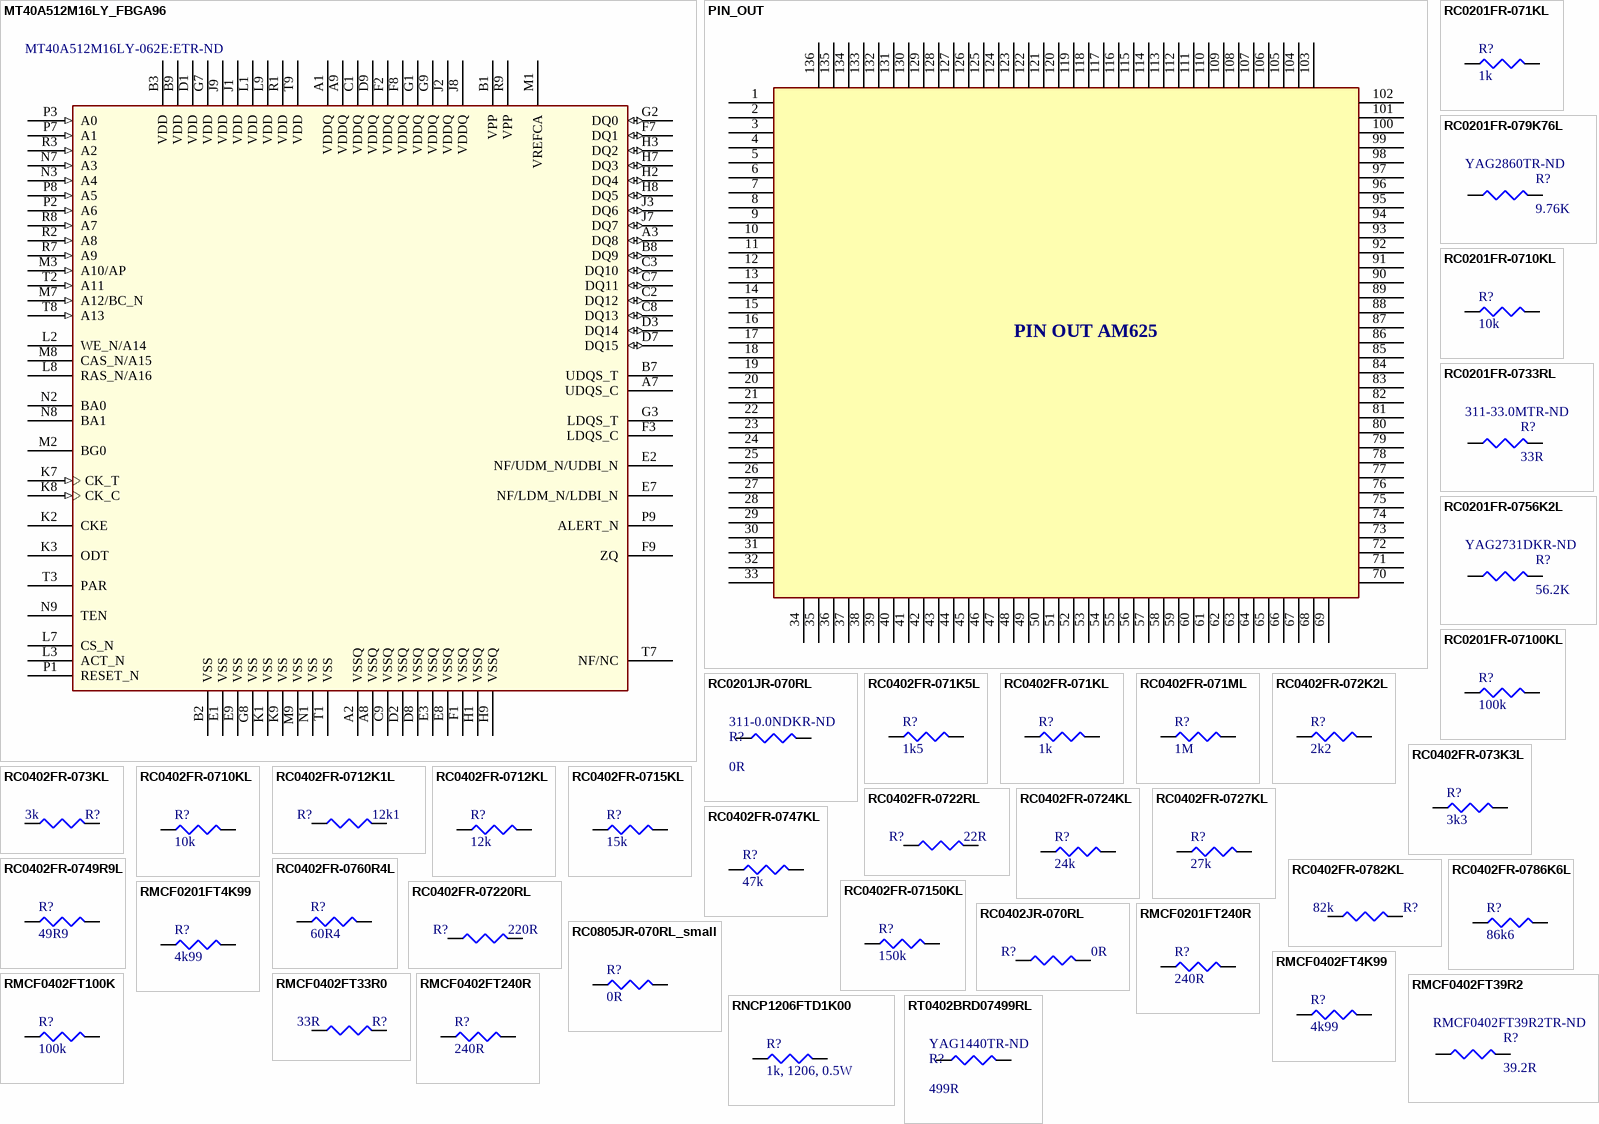
[diagram p4: symbols MT40A512M16LY_FBGA96 to RT0402BRD07499RL]

## MT40A512M16LY_FBGA96
designator U?  Supplier Part Number 1: MT40A512M16LY-062E:ETR-ND
SDRAM - DDR4 Memory IC 8Gbit Parallel 1.33 GHz 96-FBGA (7.5x13.5); Manufacturer: Micron Technology; Manufacturer Part Number: MT40A512M16LY-062E:E TR; Memory Type: Volatile; Memory Size: 8Gb; Frequency: 1.6GHz; Supplier 1: Digi-Key; Stock 1: 0; Pricing 1: 2000=5.4055 (USD); Mount: Surface Mount; Case/Package: TFBGA; Min Operating Temperature: 0°C; Max Operating Temperature: 95°C; Packaging: Tape and Reel; Series: -; ComponentLink1URL: https://www.micron.com/~/media/documents/products/data-sheet/dram/ddr4/8gb_ddr4_sdram.pdf?src-supplier=Digi-Key; ComponentLink1Description: https://www.micron.com/~/media/documents/products/data-sheet/dram/ddr4/8gb_ddr4_sdram.pdf?src-supplier=Digi-Key; ComponentLink2URL: https://datasheet.octopart.com/MT40A512M16LY-062E%3AE-TR-Micron-datasheet-163656737.pdf?src-supplier=SHENGYU+ELECTRONICS; ComponentLink2Description: https://datasheet.octopart.com/MT40A512M16LY-062E%3AE-TR-Micron-datasheet-163656737.pdf?src-supplier=SHENGYU+ELECTRONICS
footprint BGA96C80P9X16_750X1350X120
pins: A1 VDDQ (power), A2 VSSQ (power), A3 DQ8 (io), A7 UDQS_C, A8 VSSQ (power), A9 VDDQ (power), B1 VPP (power), B2 VSS (power), B3 VDD (power), B7 UDQS_T, B8 DQ9 (io), B9 VDD (power), C1 VDDQ (power), C2 DQ12 (io), C3 DQ10 (io), C7 DQ11 (io), C8 DQ13 (io), C9 VSSQ (power), D1 VDD (power), D2 VSSQ (power), D3 DQ14 (io), D7 DQ15 (io), D8 VSSQ (power), D9 VDDQ (power), E1 VSS (power), E2 NF/UDM_N/UDBI_N, E3 VSSQ (power), E7 NF/LDM_N/LDBI_N, E8 VSSQ (power), E9 VSS (power), F1 VSSQ (power), F2 VDDQ (power), F3 LDQS_C, F7 DQ1 (io), F8 VDDQ (power), F9 ZQ, G1 VDDQ (power), G2 DQ0 (io), G3 LDQS_T, G7 VDD (power), G8 VSS (power), G9 VDDQ (power), H1 VSSQ (power), H2 DQ4 (io), H3 DQ2 (io), H7 DQ3 (io), H8 DQ5 (io), H9 VSSQ (power), J1 VDD (power), J2 VDDQ (power), J3 DQ6 (io), J7 DQ7 (io), J8 VDDQ (power), J9 VDD (power), K1 VSS (power), K2 CKE, K3 ODT, K7 CK_T (in), K8 CK_C (in), K9 VSS (power), L1 VDD (power), L2 WE_N/A14, L3 ACT_N, L7 CS_N, L8 RAS_N/A16, L9 VDD (power), M1 VREFCA (power), M2 BG0, M3 A10/AP (in), M7 A12/BC_N (in), M8 CAS_N/A15, M9 VSS (power), N1 VSS (power), N2 BA0, N3 A4 (in), N7 A3 (in), N8 BA1, N9 TEN, P1 RESET_N, P2 A6 (in), P3 A0 (in), P7 A1 (in), P8 A5 (in), P9 ALERT_N, R1 VDD (power), R2 A8 (in), R3 A2 (in), R7 A9 (in), R8 A7 (in), R9 VPP (power), T1 VSS (power), T2 A11 (in), T3 PAR, T7 NF/NC, T8 A13 (in), T9 VDD (power)